# EAGLE library part FT231XQ-R (library ftdi_ft231xq-r)
This is the 20-LD QFN package of the FTDI FT231XQ-R chip.
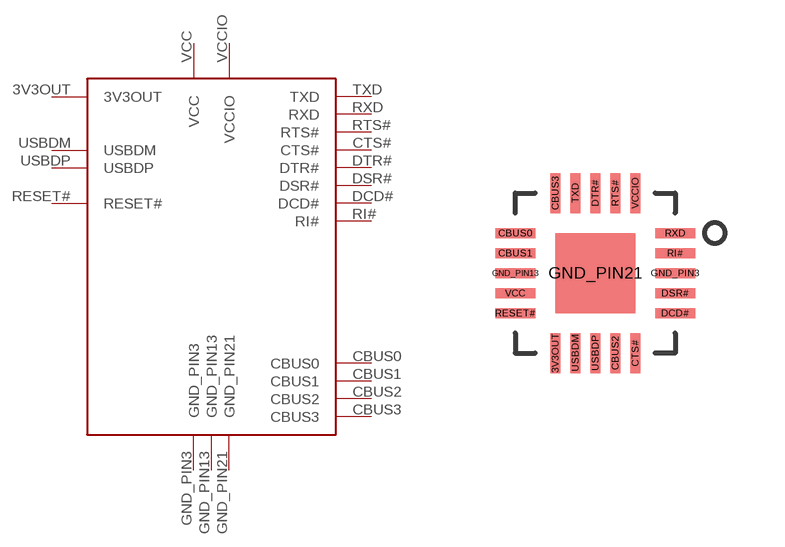
[diagram p0: symbol with the pads of FTDI_FT231XQ-R_PACKAGE; footprint FTDI_FT231XQ-R_PACKAGE]

Designator prefix -

## FT231XQ-R  [FTDI_FT231XQ-R_PACKAGE]
3V3OUT  3V3OUT
CBUS0  CBUS0
CBUS1  CBUS1
CBUS2  CBUS2
CBUS3  CBUS3
CTS#  CTS#
DCD#  DCD#
DSR#  DSR#
DTR#  DTR#
GND_PIN3  GND_PIN3
GND_PIN13  GND_PIN13
GND_PIN21  GND_PIN21
RESET#  RESET#
RI#  RI#
RTS#  RTS#
RXD  RXD
TXD  TXD
USBDM  USBDM
USBDP  USBDP
VCC  VCC
VCCIO  VCCIO

## Footprint FTDI_FT231XQ-R_PACKAGE (pad centres in mm)
smd 0.25 x 1: 3V3OUT -1.032,-2.032; CBUS2 0.468,-2.032; CBUS3 -1.032,1.968; CTS# 0.968,-2.032; DTR# -0.032,1.968; RTS# 0.468,1.968; TXD -0.532,1.968; USBDM -0.532,-2.032; USBDP -0.032,-2.032; VCCIO 0.968,1.968
smd 1 x 0.25: CBUS0 -2.032,0.968; CBUS1 -2.032,0.468; DCD# 1.968,-1.032; DSR# 1.968,-0.532; GND_PIN3 1.968,-0.032; GND_PIN13 -2.032,-0.032; RESET# -2.032,-1.032; RI# 1.968,0.468; RXD 1.968,0.968; VCC -2.032,-0.532
smd 2 x 2: GND_PIN21 -0.032,-0.032